# Altium integrated library AMP CompactPCI Type M.IntLib: 7 symbols
Pins are listed as number, name and electrical type; pins without a type are passive.

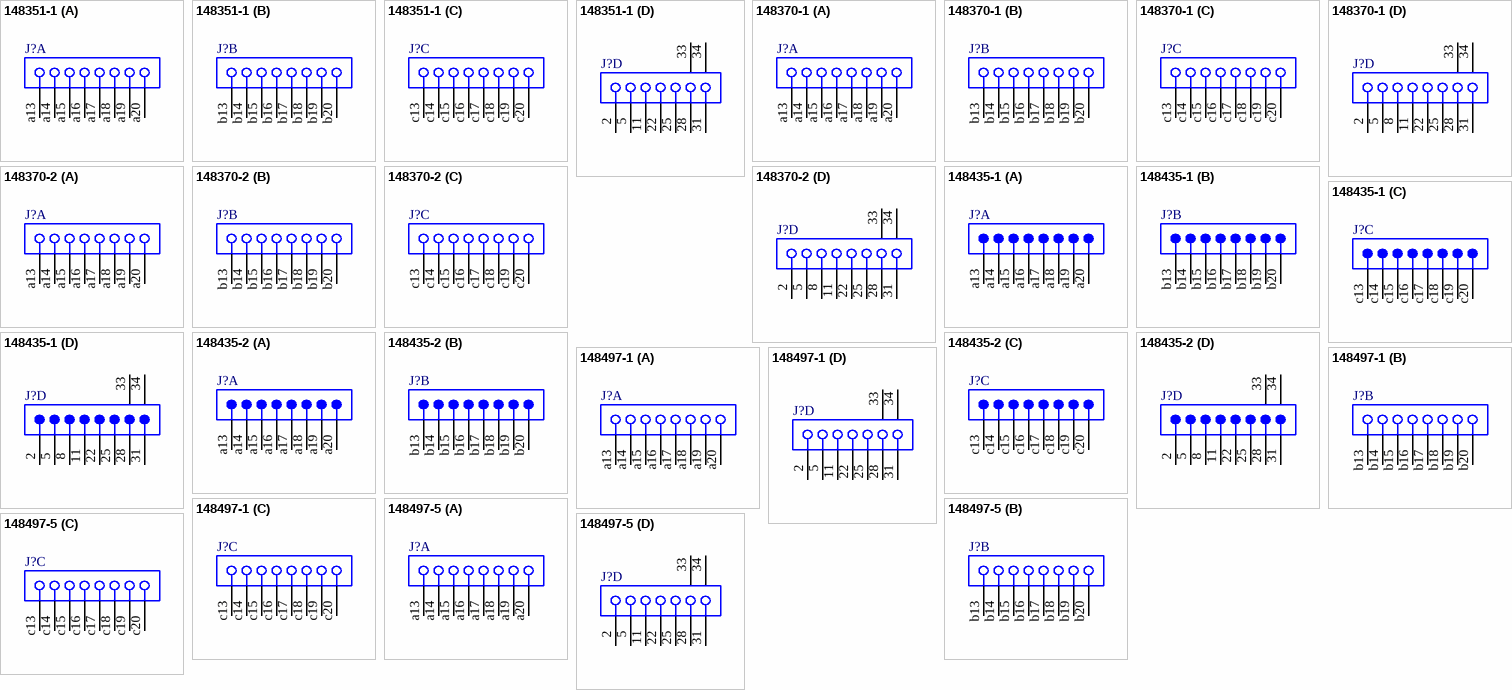
[diagram p0: symbols 148351-1 to 148497-5]

## 148351-1
designator J?
Receptacle Assembly, Eurocard, Type M, 24 Position; ContactMaterial: Phosphor Bronze; ContactPlating: Gold (30) over Nickel; Positions: 24; PCB_Layout: Complies with manufacturer's recommendation.; DrillSize: Corresponds to nominal value.; ComponentAvailability: Obsolete; Published: 17-Jul-2002; LatestRevisionDate: 29-May-2009; LatestRevisionNote: Component Body Added.; DatasheetVersion: 5-Apr-1999; PackageVersion: 05-Apr-1999; PackageReference: 148351-1; Publisher: Altium Limited; Orientation: Vertical; HousingMaterial: Glass-Filled Thermoplastic Polyester; ComponentLink1Description: Manufacturer Link; ComponentLink1URL: http://www.tycoelectronics.com/
footprint 148351-1 (Connector; CompactPCI; 24 Position; Vertical)
signal-integrity model CompactPCI
part A pins: a13, a14, a15, a16, a17, a18, a19, a20
part B pins: b13, b14, b15, b16, b17, b18, b19, b20
part C pins: c13, c14, c15, c16, c17, c18, c19, c20
part D pins: 2, 5, 11, 22, 25, 28, 31, 33 MH1, 34 MH2

## 148370-1
designator J?
Receptacle Assembly, Eurocard, Type M, 24 Position; ContactMaterial: Phosphor Bronze; ContactPlating: Gold (30) over Nickel (50); Positions: 24; PCB_Layout: Complies with manufacturer's recommendation.; DrillSize: Corresponds to nominal value.; Published: 17-Jul-2002; LatestRevisionDate: 29-May-2009; LatestRevisionNote: Component Body Added.; DatasheetVersion: 5-Apr-1999; PackageVersion: 05-Apr-1999; PackageReference: 148370-1; Publisher: Altium Limited; Orientation: Vertical; HousingMaterial: Glass-Filled Thermoplastic Polyester; ComponentLink1Description: Manufacturer Link; ComponentLink1URL: http://www.tycoelectronics.com/; ComponentLink2Description: Packaging Specification; ComponentLink2URL: http://ecommas.tycoelectronics.com/commerce/DocumentDelivery/DDEController?Action=showdoc&DocId=Customer+Drawing%7F148370%7FF%7Ftif%7FEnglish%7FENG_CD_148370_F.tif
footprint 148370-1 (Connector; CompactPCI; 24 Position; Vertical)
signal-integrity model CompactPCI
part A pins: a13, a14, a15, a16, a17, a18, a19, a20
part B pins: b13, b14, b15, b16, b17, b18, b19, b20
part C pins: c13, c14, c15, c16, c17, c18, c19, c20
part D pins: 2, 5, 8, 11, 22, 25, 28, 31, 33 MH1, 34 MH2

## 148370-2
designator J?
Receptacle Assembly, Eurocard, Type M, 24 Position; ContactMaterial: Phosphor Bronze; ContactPlating: Gold (30) over Nickel (50); Positions: 24; PCB_Layout: Complies with manufacturer's recommendation.; DrillSize: Corresponds to nominal value.; Published: 17-Jul-2002; LatestRevisionDate: 29-May-2009; LatestRevisionNote: Component Body Added.; DatasheetVersion: 5-Apr-1999; PackageVersion: 05-Apr-1999; PackageReference: 148370-2; Publisher: Altium Limited; Orientation: Vertical; HousingMaterial: Glass-Filled Thermoplastic Polyester; ComponentLink1Description: Manufacturer Link; ComponentLink1URL: http://www.tycoelectronics.com/; ComponentLink2Description: Packaging Specification; ComponentLink2URL: http://ecommas.tycoelectronics.com/commerce/DocumentDelivery/DDEController?Action=showdoc&DocId=Customer+Drawing%7F148370%7FF%7Ftif%7FEnglish%7FENG_CD_148370_F.tif
footprint 148370-2 (Connector; CompactPCI; 24 Position; Vertical)
signal-integrity model CompactPCI
part A pins: a13, a14, a15, a16, a17, a18, a19, a20
part B pins: b13, b14, b15, b16, b17, b18, b19, b20
part C pins: c13, c14, c15, c16, c17, c18, c19, c20
part D pins: 2, 5, 8, 11, 22, 25, 28, 31, 33 MH1, 34 MH2

## 148435-1
designator J?
Receptacle Assembly, Eurocard, Type M, 24 Position; ContactMaterial: Brass; ContactPlating: Gold Flash over Palladium Nickel; Positions: 24; PCB_Layout: Complies with manufacturer's recommendation.; DrillSize: Corresponds to nominal value.; ComponentAvailability: Obsolete; Published: 17-Jul-2002; LatestRevisionDate: 29-May-2009; LatestRevisionNote: Component Body Added.; DatasheetVersion: 5-Apr-1999; PackageVersion: 05-Apr-1999; PackageReference: 148435-1; Publisher: Altium Limited; Orientation: Right Angle; HousingMaterial: Glass-Filled Thermoplastic Polyester; ComponentLink1Description: Manufacturer Link; ComponentLink1URL: http://www.tycoelectronics.com/; ComponentLink2Description: Packaging Specification; ComponentLink2URL: http://ecommas.tycoelectronics.com/commerce/DocumentDelivery/DDEController?Action=showdoc&DocId=Customer+Drawing%7F148435%7FB%7Ftif%7FEnglish%7FENG_CD_148435_B.tif
footprint 148435-1 (Connector; CompactPCI; 24 Position; Right Angle)
signal-integrity model CompactPCI
part A pins: a13, a14, a15, a16, a17, a18, a19, a20
part B pins: b13, b14, b15, b16, b17, b18, b19, b20
part C pins: c13, c14, c15, c16, c17, c18, c19, c20
part D pins: 33 MH1, 34 MH2, a1 2, a3 2, a4 5, a6 5, a7 8, a9 8, a10 11, a12 11, a21 22, a23 22, a24 25, a26 25, a27 28, a29 28, a30 31, a32 31, c1 2, c3 2, c4 5, c6 5, c7 8, c9 8, c10 11, c12 11, c21 22, c23 22, c24 25, c26 25, c27 28, c29 28, c30 31, c32 31

## 148435-2
designator J?
Receptacle Assembly, Eurocard, Type M, 24 Position; ContactMaterial: Brass; ContactPlating: Gold Flash over Palladium Nickel; Positions: 24; PCB_Layout: Complies with manufacturer's recommendation.; DrillSize: Corresponds to nominal value.; ComponentAvailability: Obsolete; Published: 17-Jul-2002; LatestRevisionDate: 29-May-2009; LatestRevisionNote: Component Body Added.; DatasheetVersion: 5-Apr-1999; PackageVersion: 05-Apr-1999; PackageReference: 148435-2; Publisher: Altium Limited; Orientation: Right Angle; HousingMaterial: Glass-Filled Thermoplastic Polyester; ComponentLink1Description: Manufacturer Link; ComponentLink1URL: http://www.tycoelectronics.com/; ComponentLink2Description: Packaging Specification; ComponentLink2URL: http://ecommas.tycoelectronics.com/commerce/DocumentDelivery/DDEController?Action=showdoc&DocId=Customer+Drawing%7F148435%7FB%7Ftif%7FEnglish%7FENG_CD_148435_B.tif
footprint 148435-2 (Connector; CompactPCI; 24 Position; Right Angle)
signal-integrity model CompactPCI
part A pins: a13, a14, a15, a16, a17, a18, a19, a20
part B pins: b13, b14, b15, b16, b17, b18, b19, b20
part C pins: c13, c14, c15, c16, c17, c18, c19, c20
part D pins: 33 MH1, 34 MH2, a1 2, a3 2, a4 5, a6 5, a7 8, a9 8, a10 11, a12 11, a21 22, a23 22, a24 25, a26 25, a27 28, a29 28, a30 31, a32 31, c1 2, c3 2, c4 5, c6 5, c7 8, c9 8, c10 11, c12 11, c21 22, c23 22, c24 25, c26 25, c27 28, c29 28, c30 31, c32 31

## 148497-1
designator J?
Receptacle Assembly, Eurocard, Type M, 24 Position; ContactMaterial: Phosphor Bronze; Positions: 24; PCB_Layout: Complies with manufacturer's recommendation.; DrillSize: Corresponds to nominal value.; Published: 17-Jul-2002; LatestRevisionDate: 29-May-2009; LatestRevisionNote: Component Body Added.; DatasheetVersion: 5-Apr-1999; PackageVersion: 05-Apr-1999; PackageReference: 148497-1; Publisher: Altium Limited; Orientation: Vertical; HousingMaterial: Glass-Filled Polyester; ComponentLink1Description: Manufacturer Link; ComponentLink1URL: http://www.tycoelectronics.com/
footprint 148497-1 (Connector; CompactPCI; 24 Position; Vertical)
signal-integrity model CompactPCI
part A pins: a13, a14, a15, a16, a17, a18, a19, a20
part B pins: b13, b14, b15, b16, b17, b18, b19, b20
part C pins: c13, c14, c15, c16, c17, c18, c19, c20
part D pins: 2, 5, 11, 22, 25, 28, 31, 33 MH1, 34 MH2

## 148497-5
designator J?
Receptacle Assembly, Eurocard, Type M, 24 Position; ContactMaterial: Phosphor Bronze; ContactPlating: Gold Flash over Palladium Nickel; Positions: 24; PCB_Layout: Complies with manufacturer's recommendation.; DrillSize: Corresponds to nominal value.; Published: 17-Jul-2002; LatestRevisionDate: 29-May-2009; LatestRevisionNote: Component Body Added.; DatasheetVersion: 5-Apr-1999; PackageVersion: 05-Apr-1999; PackageReference: 148497-5; Publisher: Altium Limited; Orientation: Vertical; HousingMaterial: Glass-Filled Thermoplastic Polyester; ComponentLink1Description: Manufacturer Link; ComponentLink1URL: http://www.tycoelectronics.com/
footprint 148497-5 (Connector; CompactPCI; 24 Position; Vertical)
signal-integrity model CompactPCI
part A pins: a13, a14, a15, a16, a17, a18, a19, a20
part B pins: b13, b14, b15, b16, b17, b18, b19, b20
part C pins: c13, c14, c15, c16, c17, c18, c19, c20
part D pins: 2, 5, 11, 22, 25, 28, 31, 33 MH1, 34 MH2